# Altium integrated library SAMTEC-SMH-103-02-X-S.IntLib: 1 symbol
Pins are listed as number, name and electrical type; pins without a type are passive.

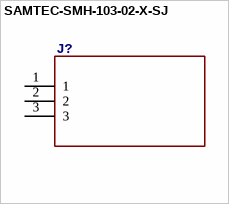
[diagram p0: symbol SAMTEC-SMH-103-02-X-SJ]

## SAMTEC-SMH-103-02-X-SJ
designator J?
footprint SAMTEC-SMH-103-02-X-S
pins: 1, 2, 3